# Altium footprint library motor_drivers.PcbLib: 1 footprints
Each footprint in its own frame and in the unit in brackets; x right, y up, seen from the top. Pads: shape width x height; smd on the part's side, far side on the other; paste and mask are expansions set on the pad; w line width, h text height; cw(c..) or ccw(c..) is an arc to the next point about the centre after c.
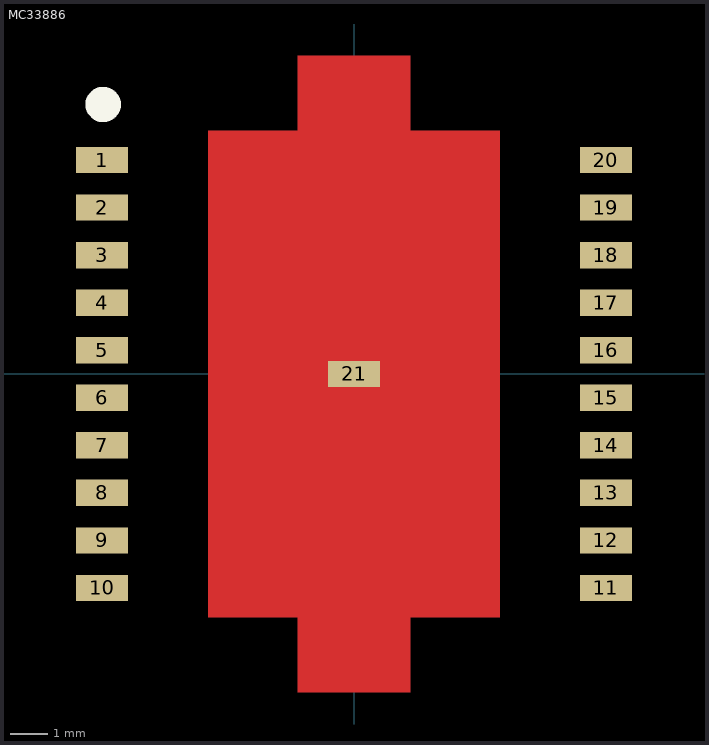
[diagram p0: the footprint, top view; thin cyan lines are the x and y axes]

## MC33886 [mm]
pads (21):
  rect 1.4x0.7 smd: 1(-6.731,5.715) 2(-6.731,4.445) 3(-6.731,3.175) 4(-6.731,1.905) 5(-6.731,0.635) 6(-6.731,-0.635) 7(-6.731,-1.905) 8(-6.731,-3.175) 9(-6.731,-4.445) 10(-6.731,-5.715) 11(6.731,-5.715) 12(6.731,-4.445) 13(6.731,-3.175) 14(6.731,-1.905) 15(6.731,-0.635) 16(6.731,0.635) 17(6.731,1.905) 18(6.731,3.175) 19(6.731,4.445) 20(6.731,5.715) 21(0,0)
Top Layer:
  region: -1.5,6.5 -1.5,8.5 1.5,8.5 1.5,6.5 3.9,6.5 3.9,-6.5 1.5,-6.5 1.5,-8.5 -1.5,-8.5 -1.5,-6.5 -3.9,-6.5 -3.9,6.5
Top Overlay:
  circle w0.5: c-6.7,7.2 r0.224
3D body "User Library-HSOP_20pin_IC-MC33886PVW.step": height 3.21, standoff 0.01, extent -7.125,-8 7.125,8